# EAGLE library part DA7280 (library PatternAgents-Dialog)
DA7280 Haptic Driver Dialog Semiconductor : https://www.dialog-semiconductor.com/sites/default/files/da7280_datasheet_2v1.pdf
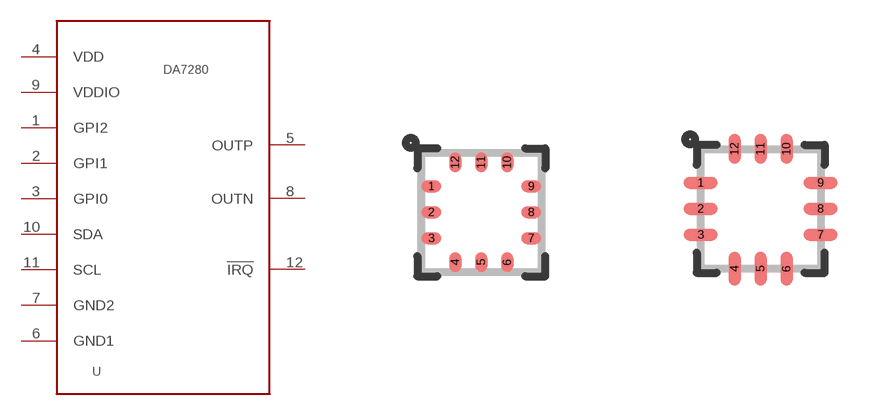
[diagram p0: symbol with the pads of WQFN12; footprints WQFN12, WQFN12-PROTO]

Designator prefix U

## DA7280  [WQFN12]
1  GPI2
2  GPI1
3  GPI0
4  VDD  pwr
5  OUTP  out
6  GND1  pwr
7  GND2  pwr
8  OUTN  out
9  VDDIO  pwr
10  SDA
11  SCL
12  !IRQ  oc

## DA7280-PROTO  [WQFN12-PROTO]
Pads as for WQFN12

## Footprint WQFN12 (pad centres in mm)
12-QFN 3.0x3.0mm Source: https://www.dialog-semiconductor.com/sites/default/files/da7280_datasheet_2v1.pdf
smd 0.5 x 0.3: 1 -1.25,0.65; 2 -1.25,0; 3 -1.25,-0.65; 7 1.25,-0.65; 8 1.25,0; 9 1.25,0.65
smd 0.3 x 0.5: 4 -0.65,-1.25; 5 0,-1.25; 6 0.65,-1.25; 10 0.65,1.25; 11 0,1.25; 12 -0.65,1.25

## Footprint WQFN12-PROTO (pad centres in mm)
WQFN-12 PROTOTYPE PACKAGE (HAND SOLDER)
smd 0.85 x 0.3: 1 -1.5,0.65; 2 -1.5,0; 3 -1.5,-0.65; 7 1.5,-0.65; 8 1.5,0; 9 1.5,0.65
smd 0.3 x 0.85: 4 -0.65,-1.5; 5 0,-1.5; 6 0.65,-1.5
smd 0.3 x 0.75: 10 0.65,1.5; 11 0,1.5; 12 -0.65,1.5